# Altium footprint library PicoBlade.PcbLib: 1 footprints
Each footprint in its own frame and in the unit in brackets; x right, y up, seen from the top. Pads: shape width x height; smd on the part's side, far side on the other; paste and mask are expansions set on the pad; w line width, h text height; cw(c..) or ccw(c..) is an arc to the next point about the centre after c.
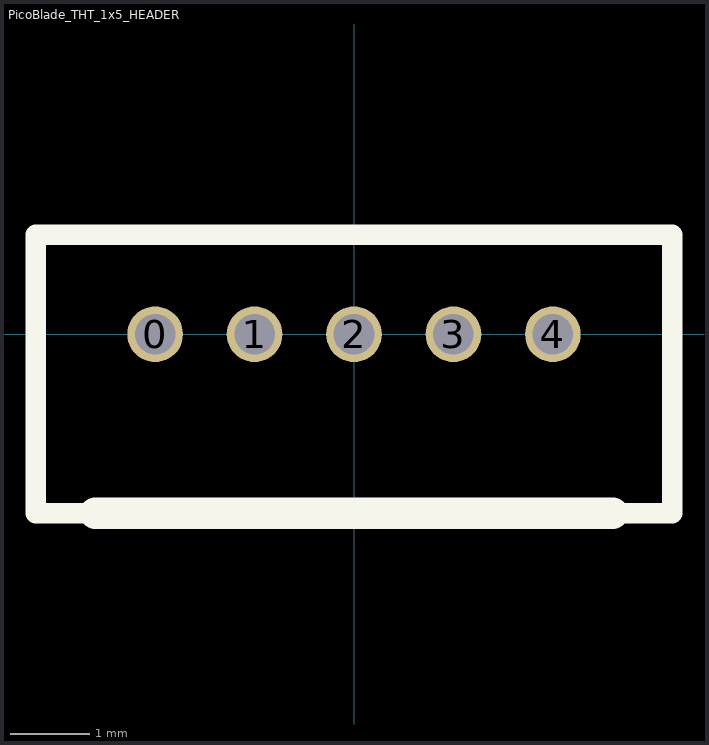
[diagram p0: the footprint, top view; thin cyan lines are the x and y axes]

## PicoBlade_THT_1x5_HEADER [mm]
pads (5):
  round 0.7 hole 0.51: 0(-2.5,0) 1(-1.25,0) 2(0,0) 3(1.25,0) 4(2.5,0)
Top Overlay:
  lines w0.254: -4,-2.25 4,-2.25 4,1.25 -4,1.25 -4,-2.25
  lines w0.4: -3.25,-2.25 3.25,-2.25
3D body "User Library-53047-0510.step": height 4.25, standoff -2.25, extent -4,-2.25 4,1.25